# EAGLE library part 71-6DP-1D (library pswitch40)
Grayhill 71 Series, 6 Pos, 2 Pole, 1 Deck
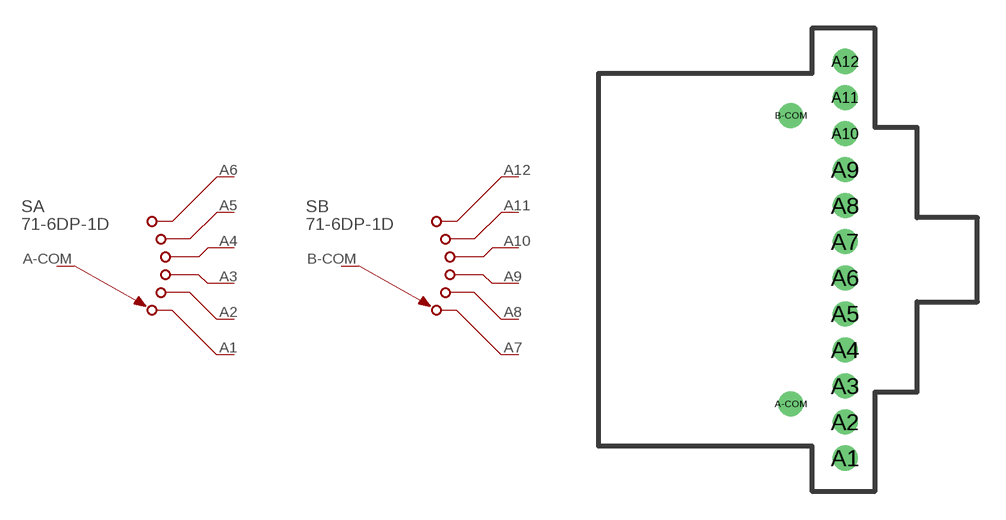
[diagram p2: symbol with the pads of 71-12-1D-2C; footprint 71-12-1D-2C]

Designator prefix S; gates A=71-6-PR B=71-6-PR

## 71-6DP-1D  [71-12-1D-2C]
A1  A:1  pas
A2  A:2  pas
A3  A:3  pas
A4  A:4  pas
A5  A:5  pas
A6  A:6  pas
A7  B:1  pas
A8  B:2  pas
A9  B:3  pas
A10  B:4  pas
A11  B:5  pas
A12  B:6  pas
A-COM  A:COM  pas
B-COM  B:COM  pas

## Footprint 71-12-1D-2C (pad centres in mm)
Grayhill 71 Series
drill 0.813: A1 3.175,-10.477; A2 3.175,-8.572; A3 3.175,-6.668; A4 3.175,-4.763; A5 3.175,-2.857; A6 3.175,-0.953; A7 3.175,0.953; A8 3.175,2.857; A9 3.175,4.763; A10 3.175,6.668; A11 3.175,8.572; A12 3.175,10.477; A-COM 0.318,-7.62; B-COM 0.318,7.62